# Altium footprint library Transformer.PcbLib: 3 footprints
Each footprint in its own frame and in the unit in brackets; x right, y up, seen from the top. Pads: shape width x height; smd on the part's side, far side on the other; paste and mask are expansions set on the pad; w line width, h text height; cw(c..) or ccw(c..) is an arc to the next point about the centre after c.
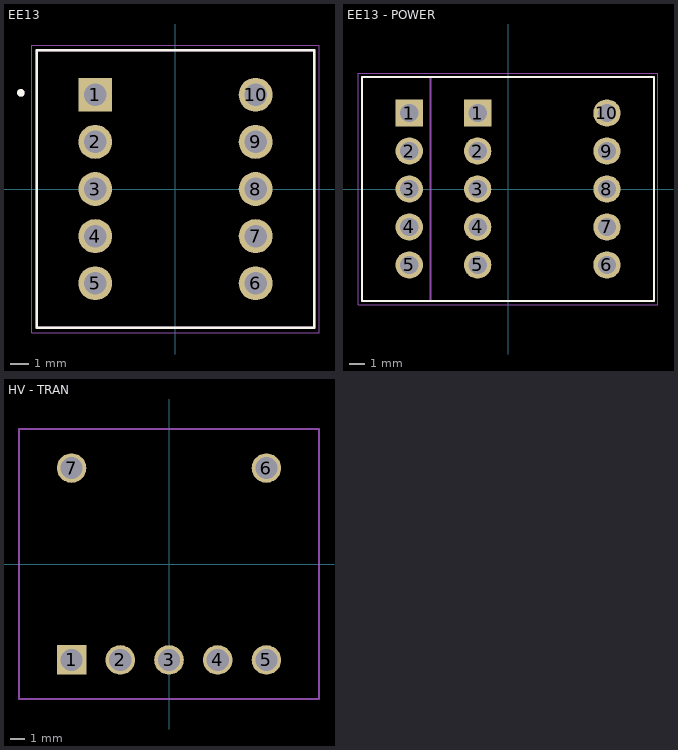
[diagram p0: the footprints below, top view; thin cyan lines are the x and y axes]

## EE13 [mm]
height 15.24
pads (10):
  rect 1.8x1.8 / inner round 1.8 / far side rect 1.8x1.8 hole 1.2: 1(-4.255,5)
  round 1.8 hole 1.2: 2(-4.255,2.5) 3(-4.255,0) 4(-4.255,-2.5) 5(-4.255,-5) 6(4.255,-5) 7(4.255,-2.5) 8(4.255,0) 9(4.255,2.5) 10(4.255,5)
Top Overlay:
  circle w0.2: c-8.2,5.1 r0.1
  lines w0.127: -7.365,-7.365 7.365,-7.365 7.365,7.365 -7.365,7.365 -7.365,-7.365
Mechanical 1:
  lines w0.127: -7.365,-7.365 -7.365,7.365 7.365,7.365 7.365,-7.365 -7.365,-7.365
Mechanical 13:
  circle w0.2: c-8.2,5.1 r0.1
  lines w0.127: -7.365,-7.365 -7.365,7.365 7.365,7.365 7.365,-7.365 -7.365,-7.365
Mechanical 15:
  lines w0.05: -7.615,-7.615 -7.615,7.615 7.615,7.615 7.615,-7.615 -7.615,-7.615
Mechanical 29:
  lines w0.05: -7.615,-7.615 -7.615,7.615 7.615,7.615 7.615,-7.615 -7.615,-7.615
  text "'.Designator'" at -2.159,-0.254 h1
3D body "step_temp.STEP": height 15.24, standoff -3.3, extent -7.366,-7.366 7.366,7.366

## EE13 - POWER [mm]
height 15.24
pads (15):
  rect 1.8x1.8 / inner round 1.8 / far side rect 1.8x1.8 hole 1.2: 1(-6.505,5) 1(-2.005,5)
  round 1.8 hole 1.2: 2(-6.505,2.5) 2(-2.005,2.5) 3(-6.505,0) 3(-2.005,0) 4(-6.505,-2.5) 4(-2.005,-2.5) 5(-6.505,-5) 5(-2.005,-5) 6(6.505,-5) 7(6.505,-2.5) 8(6.505,0) 9(6.505,2.5) 10(6.505,5)
Top Overlay:
  lines w0.127: -9.605,-7.365 9.615,-7.365 9.615,7.365 -9.605,7.365 -9.605,-7.365
Mechanical 1:
  lines w0.127: -5.115,-7.365 -5.115,7.365 ; -9.605,-7.365 -9.605,7.365 9.615,7.365 9.615,-7.365 -9.605,-7.365
Mechanical 13:
  lines w0.127: -5.115,-7.365 -5.115,7.365 ; -9.605,-7.365 -9.605,7.365 9.615,7.365 9.615,-7.365 -9.605,-7.365
Mechanical 15:
  lines w0.05: -9.879,-7.615 -9.879,7.615 9.865,7.615 9.865,-7.615 -9.879,-7.615
Mechanical 29:
  lines w0.05: -9.879,-7.615 -9.879,7.615 9.865,7.615 9.865,-7.615 -9.879,-7.615
  text "'.Designator'" at 0.091,-0.254 h1
3D body "step_temp.STEP": height 15.24, standoff -3.3, extent -5.116,-7.366 9.616,7.366
3D body "step_temp.STEP": height 15.24, standoff -3.3, extent -9.616,-7.366 5.116,7.366

## HV - TRAN [mm]
height 15.24
pads (7):
  rect 2x2 / inner round 2 / far side rect 2x2 hole 1.5: 1(-6.6,-6.5)
  round 2 hole 1.5: 2(-3.3,-6.5) 3(0,-6.5) 4(3.3,-6.5) 5(6.6,-6.5) 6(6.6,6.5) 7(-6.6,6.5)
Mechanical 1:
  lines w0.127: -10.16,-9.144 10.16,-9.144 10.16,9.144 -10.16,9.144 -10.16,-9.144
Mechanical 13:
  lines w0.127: -10.16,-9.144 10.16,-9.144 10.16,9.144 -10.16,9.144 -10.16,-9.144
Mechanical 15:
  lines w0.05: -10.16,-9.144 10.16,-9.144 10.16,9.144 -10.16,9.144 -10.16,-9.144
Mechanical 29:
  lines w0.05: -10.16,-9.144 10.16,-9.144 10.16,9.144 -10.16,9.144 -10.16,-9.144
  text "'.Designator'" at 0.254,-2.159 h1
3D body "Tran.STEP": height 17.16, standoff -1.84, extent -10,-9 10,9